# EAGLE library part 8571J (library tda8571j)
2x40W Stereo BTL Amplifier
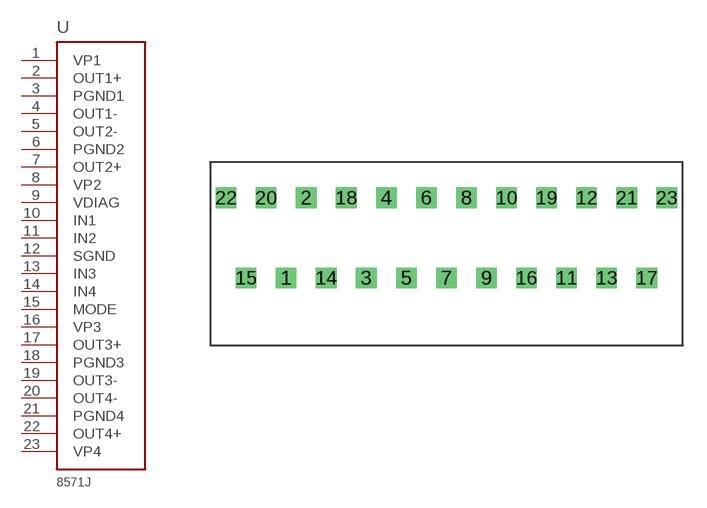
[diagram p0: symbol with the pads of SOT411-1; footprint SOT411-1]

Designator prefix -

## 8571J  [SOT411-1]
1  VP1
2  OUT1+
3  PGND1
4  OUT1-
5  OUT2-
6  PGND2
7  OUT2+
8  VP2
9  VDIAG
10  IN1
11  IN2
12  SGND
13  IN3
14  IN4
15  MODE
16  VP3
17  OUT3+
18  PGND3
19  OUT3-
20  OUT4-
21  PGND4
22  OUT4+
23  VP4

## Footprint SOT411-1 (pad centres in mm)
drill 0.8 square: 1 -10.16,-3.9; 2 -8.89,1.18; 3 -5.08,-3.9; 4 -3.81,1.18; 5 -2.54,-3.9; 6 -1.27,1.18; 7 0,-3.9; 8 1.27,1.18; 9 2.54,-3.9; 10 3.81,1.18; 11 7.62,-3.9; 12 8.89,1.18; 13 10.16,-3.9; 14 -7.62,-3.9; 15 -12.7,-3.9; 16 5.08,-3.9; 17 12.7,-3.9; 18 -6.35,1.18; 19 6.35,1.18; 20 -11.43,1.18; 21 11.43,1.18; 22 -13.97,1.18; 23 13.97,1.18